# Altium footprint library Erick.PcbLib: 25 footprints (part 1 of 2)
Each footprint in its own frame and in the unit in brackets; x right, y up, seen from the top. Pads: shape width x height; smd on the part's side, far side on the other; paste and mask are expansions set on the pad; w line width, h text height; cw(c..) or ccw(c..) is an arc to the next point about the centre after c.
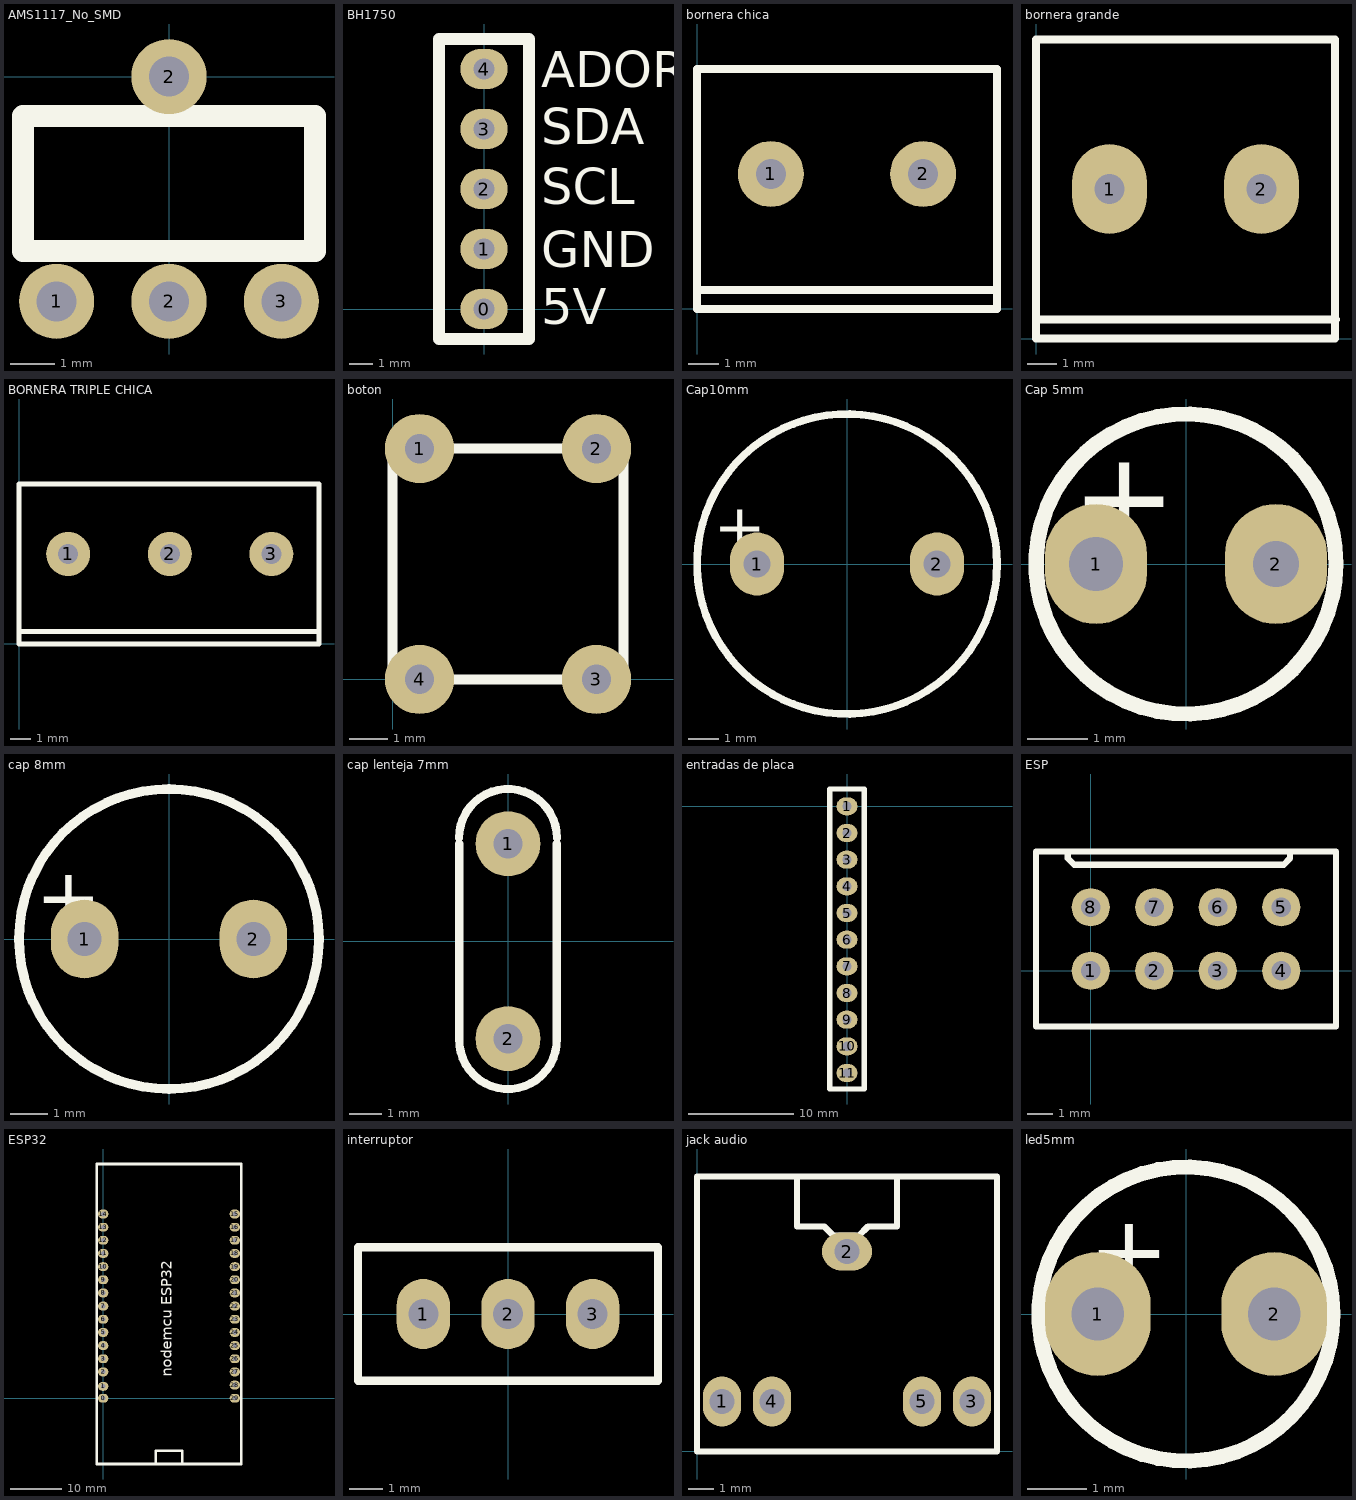
[diagram p0: the footprints below, top view; thin cyan lines are the x and y axes]

## AMS1117_No_SMD [mm]
pads (4):
  round 1.7 hole 0.9: 1(-2.54,-5.08) 2(0,-5.08) 2(0,0) 3(2.54,-5.08)
Top Overlay:
  lines w0.5: -3.302,-3.937 3.302,-3.937 3.302,-0.889 -3.302,-0.889 -3.302,-3.937

## BH1750 [mm]
pads (5):
  oval 2x1.7 hole 0.9: 0(0,0) 1(0,2.54) 2(0,5.08) 3(0,7.62) 4(0,10.16)
Top Overlay:
  lines w0.5: -1.905,-1.27 -1.905,11.43 1.905,11.43 1.905,-1.27 -1.905,-1.27
  text "ADOR" at 2.413,9.398 h1.52
  text "SDA" at 2.413,6.985 h1.52
  text "SCL" at 2.413,4.445 h1.52
  text "GND" at 2.413,1.778 h1.52
  text "5V" at 2.413,-0.635 h1.52

## bornera chica [mm]
pads (2):
  round 2.2 hole 1: 1(2.46,4.5) 2(7.54,4.5)
Top Overlay:
  lines w0.254: 0,0.635 10,0.635 ; 0,0 10,0 10,8 0,8 0,0

## bornera grande [mm]
pads (2):
  oval 2.5x3 hole 1: 1(2.46,5) 2(7.54,5)
Top Overlay:
  lines w0.254: 0,0.635 10.033,0.635 ; 0,0 0,10 10,10 10,0 0,0

## BORNERA TRIPLE CHICA [mm]
pads (3):
  round 2.2 hole 1: 1(2.46,4.5) 2(7.54,4.5) 3(12.62,4.5)
Top Overlay:
  lines w0.254: 0,0.635 15,0.635 ; 0,0 0,8 15,8 15,0 0,0

## boton [mm]
pads (4):
  round 1.8 hole 0.762: 1(0.7,6) 2(5.3,6) 3(5.3,0) 4(0.7,0)
Top Overlay:
  lines w0.254: 0,0 0,6 6,6 6,0 0,0

## Cap10mm [mm]
pads (2):
  oval 1.8x2.1 hole 0.9: 1(-3,0) 2(3,0)
Top Overlay:
  circle w0.254: c0,0 r5
  text "+" at -4.445,0.508 h1.52

## Cap 5mm [mm]
pads (2):
  oval 1.7x2 hole 0.9: 1(-1.5,0)
  oval 1.7x2 hole 0.762: 2(1.5,0)
Top Overlay:
  circle w0.254: c0,0 r2.5
  text "+" at -1.905,0.381 h1.52

## cap 8mm [mm]
pads (2):
  oval 1.8x2.1 hole 0.9: 1(-2.25,0) 2(2.25,0)
Top Overlay:
  circle w0.254: c0,0 r4
  text "+" at -3.556,0.381 h1.52

## cap lenteja 7mm [mm]
pads (2):
  round 2 hole 0.9: 1(0,3) 2(0,-3)
Top Overlay:
  lines w0.254: -1.51,3.175 cw(c0,3.175) 1.51,3.175 ; -1.5,3 -1.5,-3 ccw(c0,-3.048) 1.5,-3 1.5,3

## entradas de placa [mm]
pads (11):
  oval 2x1.7 hole 0.9: 1(0,0) 2(0,-2.54) 3(0,-5.08) 4(0,-7.62) 5(0,-10.16) 6(0,-12.7) 7(0,-15.24) 8(0,-17.78) 9(0,-20.32) 10(0,-22.86) 11(0,-25.4)
Top Overlay:
  lines w0.5: -1.651,-26.924 1.651,-26.924 1.651,1.651 -1.651,1.651 -1.651,-26.924

## ESP [mil]
pads (8):
  round 60 hole 30: 1(0,0) 2(100,0) 3(200,0) 4(300,0) 5(300,100) 6(200,100) 7(100,100) 8(0,100)
Top Overlay:
  lines w10: -36.22,187.2 -36.22,177.2 -26.22,167.2 303.78,167.2 313.78,177.2 313.78,187.8 ; -86.22,-87.8 386.22,-87.8 386.22,187.8 -86.22,187.8 -86.22,-87.8

## ESP32 [mm]
pads (30):
  oval 2x1.7 hole 0.9: 0(0,0) 1(0,2.286) 2(0,5.08) 3(0,7.62) 4(0,10.16) 5(0,12.7) 6(0,15.24) 7(0,17.78) 8(0,20.32) 9(0,22.86) 10(0,25.4) 11(0,27.94) 12(0,30.48) 13(0,33.02) 14(0,35.56) 15(25.4,35.56) 16(25.4,33.02) 17(25.4,30.48) 18(25.4,27.94) 19(25.4,25.4) 20(25.4,22.86) 21(25.4,20.32) 22(25.4,17.78) 23(25.4,15.24) 24(25.4,12.7) 25(25.4,10.16) 26(25.4,7.62) 27(25.4,5.08) 28(25.4,2.54) 29(25.4,0)
Top Overlay:
  lines w0.5: 10.16,-12.7 10.16,-10.16 15.24,-10.16 15.24,-12.7 ; -1.27,-12.7 26.67,-12.7 26.67,45.212 -1.27,45.212 -1.27,-12.7
  text "nodemcu ESP32" at 13.208,4.191 h2.03

## interruptor [mm]
pads (3):
  oval 1.6x2.1 hole 0.9: 1(-2.54,0) 2(0,0) 3(2.54,0)
Top Overlay:
  lines w0.254: -4.5,-2 4.5,-2 4.5,2 -4.5,2 -4.5,-2

## jack audio [mm]
pads (5):
  oval 1.524x2 hole 1: 1(1,2) 3(11,2) 4(3,2) 5(9,2)
  oval 2x1.524 hole 1: 2(6,8)
Top Overlay:
  lines w0.254: 4,11 4,9 4.699,9 5.097,9 5.461,8.636 6.477,8.636 6.841,9 7.476,9 8,9 8,11 ; 0,0 12,0 12,11 0,11 0,0

## led5mm [mm]
pads (2):
  oval 1.8x2.1 hole 0.9: 1(-1.5,0) 2(1.5,0)
Top Overlay:
  circle w0.254: c0,0 r2.5
  text "+" at -1.651,0.508 h1.2